# Altium schematic symbol library 7499211125.SchLib: 1 symbol
Pins are listed as number, name and electrical type; pins without a type are passive.

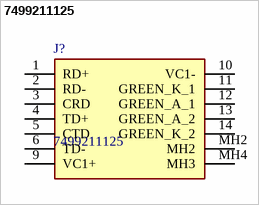
[diagram p0: symbol 7499211125]

## 7499211125
designator J?
Through Hole Lan Ethernet Transformer, 16 x 13.55 x 21.3mm, -40  +85 C; Manufacturer_Name: Wurth Elektronik; Geometry.Height: 15.25mm; Mouser Part Number: 710-7499211125; Mouser Price/Stock: https://www.mouser.co.uk/ProductDetail/Wurth-Elektronik/7499211125?qs=SaTeGCoDkn2NnZ3LHUY8uQ%3D%3D; Manufacturer_Part_Number: 7499211125; Datasheet Link: https://katalog.we-online.de/pbs/datasheet/7499211125.pdf
footprint 7499211125
pins: 1 RD+, 2 RD-, 3 CRD, 4 TD+, 5 CTD, 6 TD-, 9 VC1+, 10 VC1-, 11 GREEN_K_1, 12 GREEN_A_1, 13 GREEN_A_2, 14 GREEN_K_2, MH2, MH4 MH3